# EAGLE library part ESP32-WROOM-32D (library nebrius)
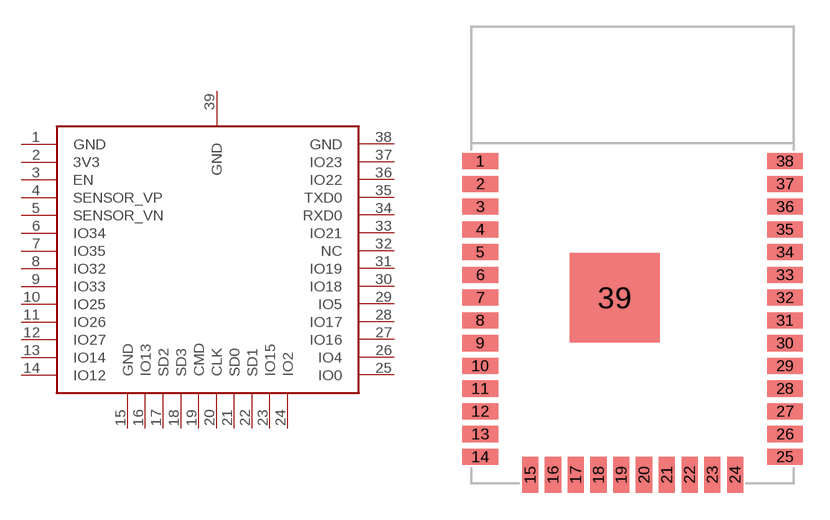
[diagram p1: symbol with the pads of ESP32-WROOM-32D; footprint ESP32-WROOM-32D]

Designator prefix -

## ESP32-WROOM-32D  [ESP32-WROOM-32D]
1  GND  pas
2  3V3  pas
3  EN  pas
4  SENSOR_VP  pas
5  SENSOR_VN  pas
6  IO34  pas
7  IO35  pas
8  IO32  pas
9  IO33  pas
10  IO25  pas
11  IO26  pas
12  IO27
13  IO14
14  IO12
15  GND  pas
16  IO13  pas
17  SD2  pas
18  SD3  pas
19  CMD  pas
20  CLK  pas
21  SD0  pas
22  SD1  pas
23  IO15  pas
24  IO2  pas
25  IO0
26  IO4
27  IO16
28  IO17  pas
29  IO5  pas
30  IO18  pas
31  IO19  pas
32  NC  nc
33  IO21  pas
34  RXD0  pas
35  TXD0  pas
36  IO22  pas
37  IO23  pas
38  GND  pas
39  GND

## Footprint ESP32-WROOM-32D (pad centres in mm)
ESP32-WROOM-32D
smd 2 x 0.9: 1 -8.5,0; 2 -8.5,-1.27; 3 -8.5,-2.54; 4 -8.5,-3.81; 5 -8.5,-5.08; 6 -8.5,-6.35; 7 -8.5,-7.62; 8 -8.5,-8.89; 9 -8.5,-10.16; 10 -8.5,-11.43; 11 -8.5,-12.7; 12 -8.5,-13.97; 13 -8.5,-15.24; 14 -8.5,-16.51; 25 8.5,-16.51; 26 8.5,-15.24; 27 8.5,-13.97; 28 8.5,-12.7; 29 8.5,-11.43; 30 8.5,-10.16; 31 8.5,-8.89; 32 8.5,-7.62; 33 8.5,-6.35; 34 8.5,-5.08; 35 8.5,-3.81; 36 8.5,-2.54; 37 8.5,-1.27; 38 8.5,0
smd 0.9 x 2: 15 -5.715,-17.51; 16 -4.445,-17.51; 17 -3.175,-17.51; 18 -1.905,-17.51; 19 -0.635,-17.51; 20 0.635,-17.51; 21 1.905,-17.51; 22 3.175,-17.51; 23 4.445,-17.51; 24 5.715,-17.51
smd 5 x 5: 39 -1,-7.62